# EAGLE library part AFBPUQUOUT (library ppmac)
PPMAC interface to a pulse and direction stepper with quadrature encoder input. Does not have fault or enable as sharing encoder lines
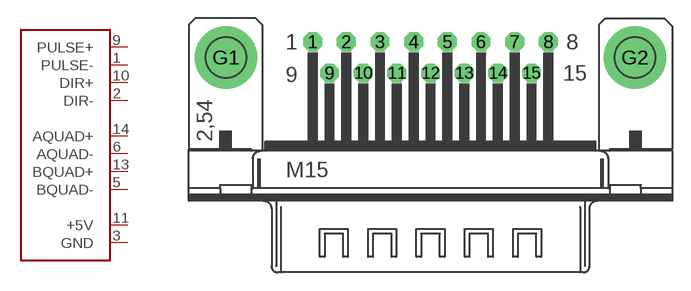
[diagram p2: symbol with the pads of M15HP; footprint M15HP]

Designator prefix -

## AFBPUQUOUT  [M15HP]
1  PULSE-  out
2  DIR-  out
3  GND  pwr
5  BQUAD-
6  AQUAD-  in
9  PULSE+  out
10  DIR+  out
11  +5V  pwr
13  BQUAD+  in
14  AQUAD+  in

## Footprint M15HP (pad centres in mm)
SUB-D
drill 1.016 octagon: 1 -9.601,1.27; 2 -6.858,1.27; 3 -4.115,1.27; 4 -1.372,1.27; 5 1.372,1.27; 6 4.115,1.27; 7 6.858,1.27; 8 9.601,1.27; 9 -8.23,-1.27; 10 -5.486,-1.27; 11 -2.743,-1.27; 12 0,-1.27; 13 2.743,-1.27; 14 5.486,-1.27; 15 8.23,-1.27
drill 3.302 pad 5.08: G1 -16.662,0; G2 16.662,0